# Altium integrated library Micron Memory DDR SDRAM.IntLib: 109 symbols (part 19 of 22)
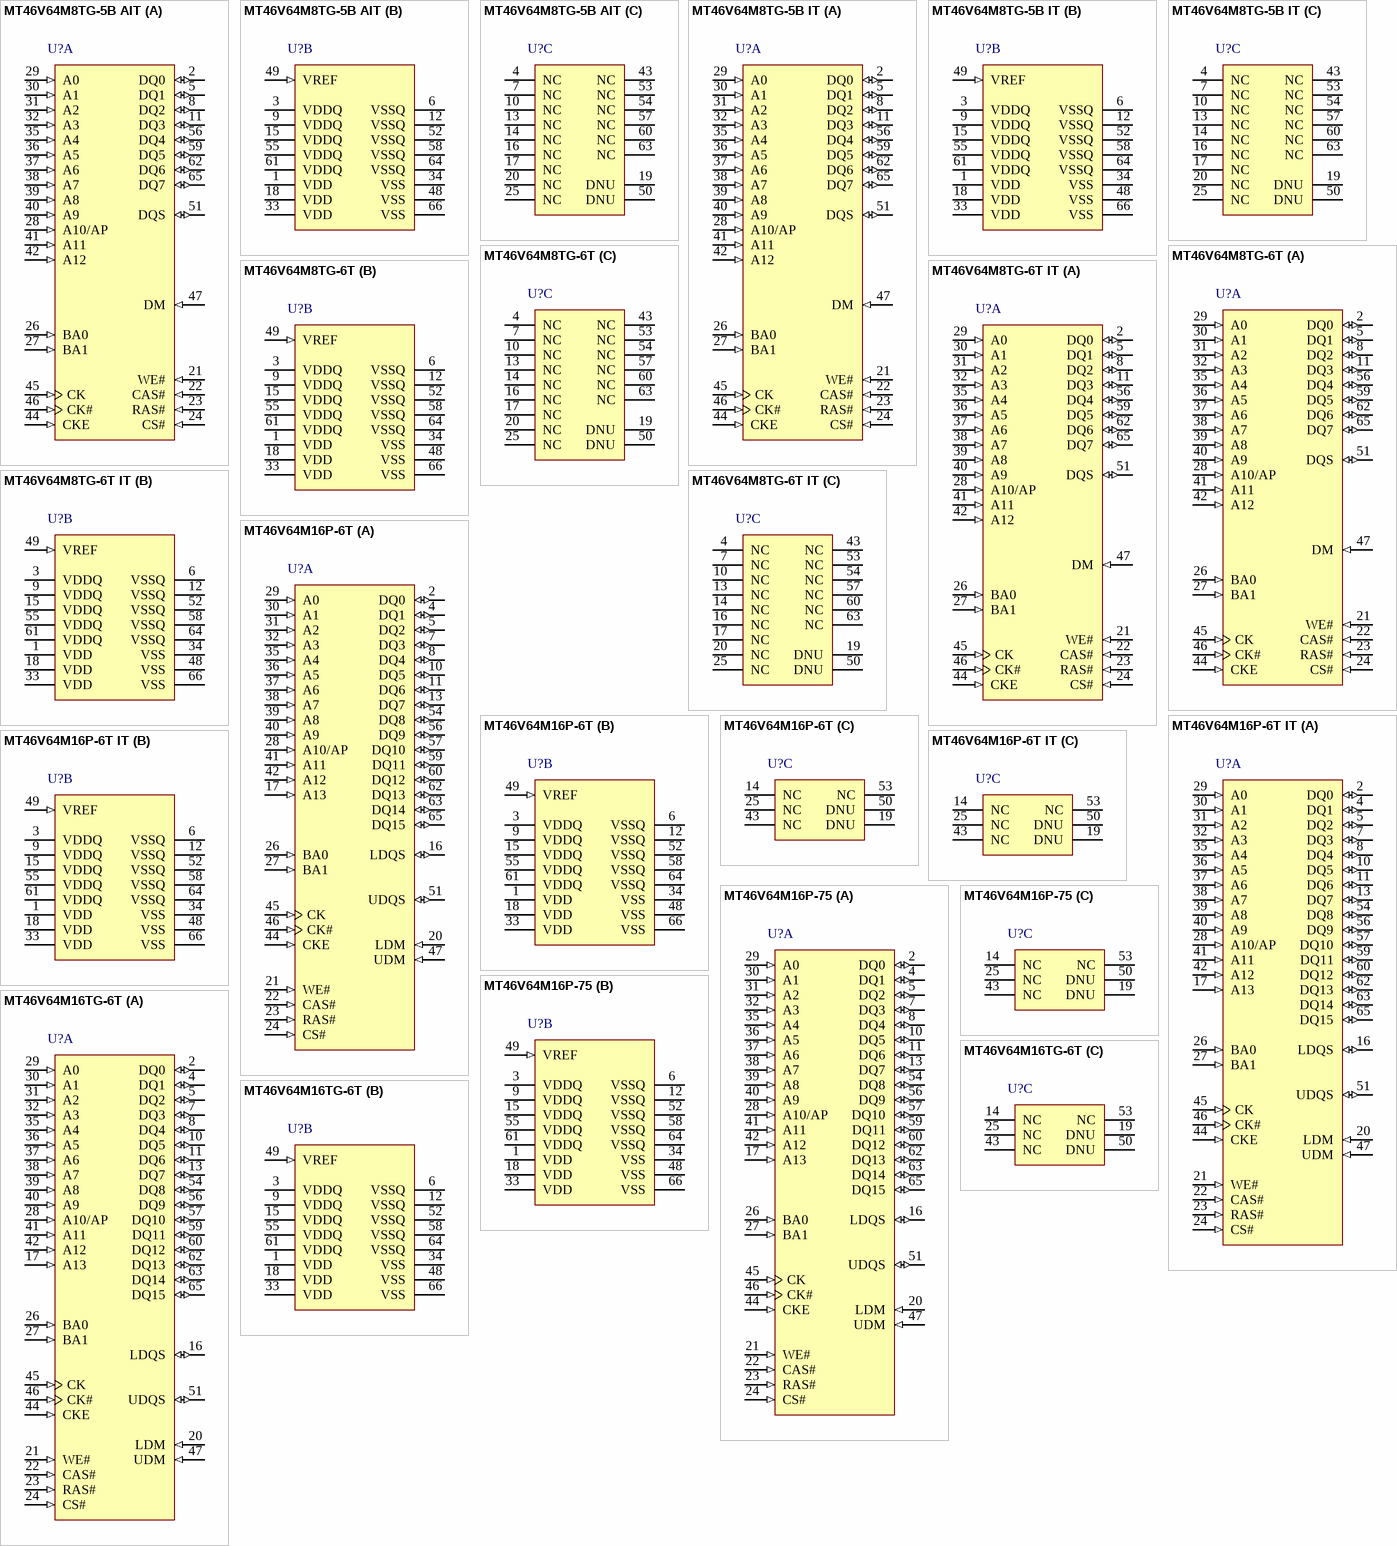
[diagram p31: symbols MT46V64M8TG-5B AIT to MT46V64M16TG-6T]

## MT46V64M16TG-6T
designator U?
1Gb 167MHz DDR SDRAM, 64Mb x 16, 6ns, 2.5V, 0 to 70 degC, 66-Pin TSOP; Manufacturer: Micron; PartNumber: MT46V64M16TG-6T; Op. Temp.: 0C to +70C; DatasheetVersion: Rev.J; PackageReference: MICT-TG-66; PackageDescription: 66-Pin Thin Small Outline Package, 10.16 x 22.22 mm, Pitch 0.65 mm; Clock Rate: 167 MHz; Cycle Time: 6ns; Density: 1Gb; Depth: 64Mb; Package: TSOP; Part Status: Production; Pin Count: 66-pin; RoHS: 5/6; Voltage: 2.5V; Width: x16; Mounting Technology: Surface Mount; ComponentLink1Description: Manufacturer URL; ComponentLink1URL: http://www.micron.com/; ComponentLink2Description: Datasheet; ComponentLink2URL: http://www.micron.com/~/media/Documents/Products/Data Sheet/DRAM/1Gb_DDR.pdf; ComponentLink3Description: Package Specification; ComponentLink3URL: http://www.micron.com/~/media/Documents/Products/Data%20Sheet/DRAM/256Mb_DDR.pdf
footprint MICT-TG-66_N (SOP, 66-Leads, Body 22.22x10.16mm, Pitch 0.65mm, IPC Medium Density)
part A pins: 2 DQ0 (io) "Data input/output: Data bus for x16.", 4 DQ1 (io) "Data input/output: Data bus for x16.", 5 DQ2 (io) "Data input/output: Data bus for x16.", 7 DQ3 (io) "Data input/output: Data bus for x16.", 8 DQ4 (io) "Data input/output: Data bus for x16.", 10 DQ5 (io) "Data input/output: Data bus for x16.", 11 DQ6 (io) "Data input/output: Data bus for x16.", 13 DQ7 (io) "Data input/output: Data bus for x16.", 16 LDQS (io) "Data strobe: Output with read data, input with write data. DQS is edgealigned with read data, center-aligned with write data. It is used to capture data. For the x16, LDQS is DQS for DQ[7:0] and UDQS is DQS for DQ[15:8]. Pin (See Datasheet)", 17 A13 (in) "Address inputs: Provide the row address for ACTIVE commands, and the column address and auto precharge bit (A10) for READ/WRITE commands, to select one location out of the memory array in the respective bank. A10 sampled (See Datasheet)", 20 LDM (in) "Input data mask: DM is an input mask signal for write data. Input data is masked when DM is sampled HIGH along with that input data during a write access. DM is sampled on both edges of DQS. Although DM pins are input-only, (See Datasheet)", 21 WE# (in) "Command inputs: RAS#, CAS#, and WE# (along with CS#) define the command being entered.", 22 CAS# (in) "Command inputs: RAS#, CAS#, and WE# (along with CS#) define the command being entered.", 23 RAS# (in) "Command inputs: RAS#, CAS#, and WE# (along with CS#) define the command being entered.", 24 CS# (in) "Chip select: CS# enables (registered LOW) and disables (registered HIGH) the command decoder. All commands are masked when CS# is registered HIGH. CS# provides for external bank selection on systems with multiple banks. CS# (See Datasheet)", 26 BA0 (in) "Bank address inputs: BA0 and BA1 define the bank to which an ACTIVE, READ, WRITE, or PRECHARGE command is being applied. BA0 and BA1 also define which mode register (mode register or extended mode register) is loaded during (See Datasheet)", 27 BA1 (in) "Bank address inputs: BA0 and BA1 define the bank to which an ACTIVE, READ, WRITE, or PRECHARGE command is being applied. BA0 and BA1 also define which mode register (mode register or extended mode register) is loaded during (See Datasheet)", 28 A10/AP (in) "Address inputs: Provide the row address for ACTIVE commands, and the column address and auto precharge bit (A10) for READ/WRITE commands, to select one location out of the memory array in the respective bank. A10 sampled (See Datasheet)", 29 A0 (in) "Address inputs: Provide the row address for ACTIVE commands, and the column address and auto precharge bit (A10) for READ/WRITE commands, to select one location out of the memory array in the respective bank. A10 sampled (See Datasheet)", 30 A1 (in) "Address inputs: Provide the row address for ACTIVE commands, and the column address and auto precharge bit (A10) for READ/WRITE commands, to select one location out of the memory array in the respective bank. A10 sampled (See Datasheet)", 31 A2 (in) "Address inputs: Provide the row address for ACTIVE commands, and the column address and auto precharge bit (A10) for READ/WRITE commands, to select one location out of the memory array in the respective bank. A10 sampled (See Datasheet)", 32 A3 (in) "Address inputs: Provide the row address for ACTIVE commands, and the column address and auto precharge bit (A10) for READ/WRITE commands, to select one location out of the memory array in the respective bank. A10 sampled (See Datasheet)", 35 A4 (in) "Address inputs: Provide the row address for ACTIVE commands, and the column address and auto precharge bit (A10) for READ/WRITE commands, to select one location out of the memory array in the respective bank. A10 sampled (See Datasheet)", 36 A5 (in) "Address inputs: Provide the row address for ACTIVE commands, and the column address and auto precharge bit (A10) for READ/WRITE commands, to select one location out of the memory array in the respective bank. A10 sampled (See Datasheet)", 37 A6 (in) "Address inputs: Provide the row address for ACTIVE commands, and the column address and auto precharge bit (A10) for READ/WRITE commands, to select one location out of the memory array in the respective bank. A10 sampled (See Datasheet)", 38 A7 (in) "Address inputs: Provide the row address for ACTIVE commands, and the column address and auto precharge bit (A10) for READ/WRITE commands, to select one location out of the memory array in the respective bank. A10 sampled (See Datasheet)", 39 A8 (in) "Address inputs: Provide the row address for ACTIVE commands, and the column address and auto precharge bit (A10) for READ/WRITE commands, to select one location out of the memory array in the respective bank. A10 sampled (See Datasheet)", 40 A9 (in) "Address inputs: Provide the row address for ACTIVE commands, and the column address and auto precharge bit (A10) for READ/WRITE commands, to select one location out of the memory array in the respective bank. A10 sampled (See Datasheet)", 41 A11 (in) "Address inputs: Provide the row address for ACTIVE commands, and the column address and auto precharge bit (A10) for READ/WRITE commands, to select one location out of the memory array in the respective bank. A10 sampled (See Datasheet)", 42 A12 (in) "Address inputs: Provide the row address for ACTIVE commands, and the column address and auto precharge bit (A10) for READ/WRITE commands, to select one location out of the memory array in the respective bank. A10 sampled (See Datasheet)", 44 CKE (in) "Clock enable: CKE HIGH activates and CKE LOW deactivates the internal clock, input buffers, and output drivers. Taking CKE LOW provides PRECHARGE power-down and SELF REFRESH operations (all banks idle) or ACTIVE power-down (See Datasheet)", 45 CK (in) "Clock: CK and CK# are differential clock inputs. All address and control input signals are sampled on the crossing of the positive edge of CK and the negative edge of CK#. Output data (DQ and DQS) is referenced to the (See Datasheet)", 46 CK# (in) "Clock: CK and CK# are differential clock inputs. All address and control input signals are sampled on the crossing of the positive edge of CK and the negative edge of CK#. Output data (DQ and DQS) is referenced to the (See Datasheet)", 47 UDM (in) "Input data mask: DM is an input mask signal for write data. Input data is masked when DM is sampled HIGH along with that input data during a write access. DM is sampled on both edges of DQS. Although DM pins are input-only, (See Datasheet)", 51 UDQS (io) "Data strobe: Output with read data, input with write data. DQS is edgealigned with read data, center-aligned with write data. It is used to capture data. For the x16, LDQS is DQS for DQ[7:0] and UDQS is DQS for DQ[15:8]. Pin (See Datasheet)", 54 DQ8 (io) "Data input/output: Data bus for x16.", 56 DQ9 (io) "Data input/output: Data bus for x16.", 57 DQ10 (io) "Data input/output: Data bus for x16.", 59 DQ11 (io) "Data input/output: Data bus for x16.", 60 DQ12 (io) "Data input/output: Data bus for x16.", 62 DQ13 (io) "Data input/output: Data bus for x16.", 63 DQ14 (io) "Data input/output: Data bus for x16.", 65 DQ15 (io) "Data input/output: Data bus for x16."
part B pins: 1 VDD (power) "Power supply.", 3 VDDQ (power) "DQ power supply: Isolated on the die for improved noise immunity.", 6 VSSQ (power) "DQ ground: Isolated on the die for improved noise immunity.", 9 VDDQ (power) "DQ power supply: Isolated on the die for improved noise immunity.", 12 VSSQ (power) "DQ ground: Isolated on the die for improved noise immunity.", 15 VDDQ (power) "DQ power supply: Isolated on the die for improved noise immunity.", 18 VDD (power) "Power supply.", 33 VDD (power) "Power supply.", 34 VSS (power) "Ground.", 48 VSS (power) "Ground.", 49 VREF (in) "SSTL_2 reference voltage.", 52 VSSQ (power) "DQ ground: Isolated on the die for improved noise immunity.", 55 VDDQ (power) "DQ power supply: Isolated on the die for improved noise immunity.", 58 VSSQ (power) "DQ ground: Isolated on the die for improved noise immunity.", 61 VDDQ (power) "DQ power supply: Isolated on the die for improved noise immunity.", 64 VSSQ (power) "DQ ground: Isolated on the die for improved noise immunity.", 66 VSS (power) "Ground."
part C pins: 14 NC "No connect for x16: These pins should be left unconnected.", 19 DNU "Do not use: Must float to minimize noise on VREF.", 25 NC "No connect for x16: These pins should be left unconnected.", 43 NC "No connect for x16: These pins should be left unconnected.", 50 DNU "Do not use: Must float to minimize noise on VREF.", 53 NC "No connect for x16: These pins should be left unconnected."

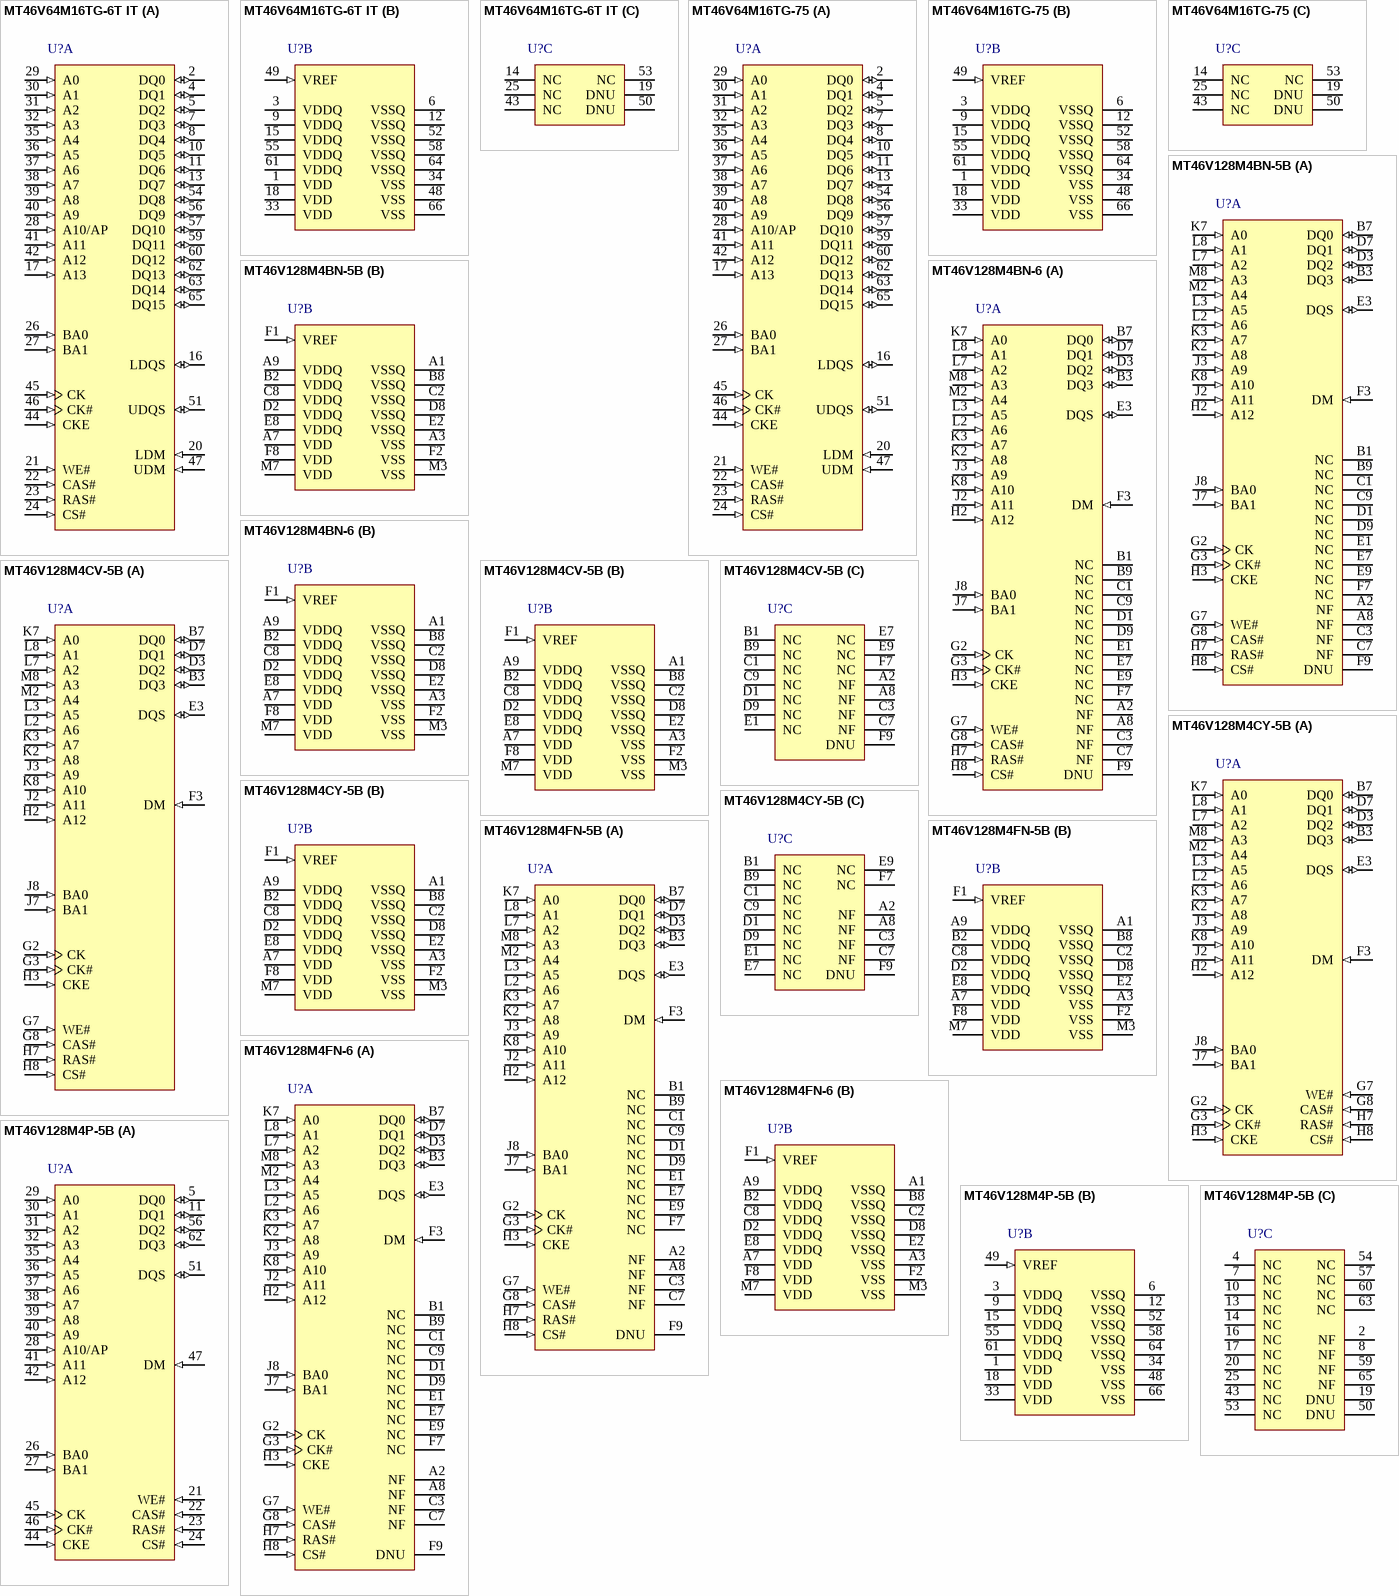
[diagram p11: symbols MT46V64M16TG-6T IT to MT46V128M4P-5B]

## MT46V64M16TG-6T IT
designator U?
1Gb 167MHz DDR SDRAM, 64Mb x 16, 6ns, 2.5V, -40 to 85 degC, 66-Pin TSOP; Manufacturer: Micron; PartNumber: MT46V64M16TG-6T IT; Op. Temp.: -40C to +85C; DatasheetVersion: Rev.J; PackageReference: MICT-TG-66; PackageDescription: 66-Pin Thin Small Outline Package, 10.16 x 22.22 mm, Pitch 0.65 mm; Clock Rate: 167 MHz; Cycle Time: 6ns; Density: 1Gb; Depth: 64Mb; Package: TSOP; Part Status: Production; Pin Count: 66-pin; RoHS: 5/6; Voltage: 2.5V; Width: x16; Mounting Technology: Surface Mount; ComponentLink1Description: Manufacturer URL; ComponentLink1URL: http://www.micron.com/; ComponentLink2Description: Datasheet; ComponentLink2URL: http://www.micron.com/~/media/Documents/Products/Data Sheet/DRAM/1Gb_DDR.pdf; ComponentLink3Description: Package Specification; ComponentLink3URL: http://www.micron.com/~/media/Documents/Products/Data%20Sheet/DRAM/256Mb_DDR.pdf
footprint MICT-TG-66_N (SOP, 66-Leads, Body 22.22x10.16mm, Pitch 0.65mm, IPC Medium Density)
part A pins: 2 DQ0 (io) "Data input/output: Data bus for x16.", 4 DQ1 (io) "Data input/output: Data bus for x16.", 5 DQ2 (io) "Data input/output: Data bus for x16.", 7 DQ3 (io) "Data input/output: Data bus for x16.", 8 DQ4 (io) "Data input/output: Data bus for x16.", 10 DQ5 (io) "Data input/output: Data bus for x16.", 11 DQ6 (io) "Data input/output: Data bus for x16.", 13 DQ7 (io) "Data input/output: Data bus for x16.", 16 LDQS (io) "Data strobe: Output with read data, input with write data. DQS is edgealigned with read data, center-aligned with write data. It is used to capture data. For the x16, LDQS is DQS for DQ[7:0] and UDQS is DQS for DQ[15:8]. Pin (See Datasheet)", 17 A13 (in) "Address inputs: Provide the row address for ACTIVE commands, and the column address and auto precharge bit (A10) for READ/WRITE commands, to select one location out of the memory array in the respective bank. A10 sampled (See Datasheet)", 20 LDM (in) "Input data mask: DM is an input mask signal for write data. Input data is masked when DM is sampled HIGH along with that input data during a write access. DM is sampled on both edges of DQS. Although DM pins are input-only, (See Datasheet)", 21 WE# (in) "Command inputs: RAS#, CAS#, and WE# (along with CS#) define the command being entered.", 22 CAS# (in) "Command inputs: RAS#, CAS#, and WE# (along with CS#) define the command being entered.", 23 RAS# (in) "Command inputs: RAS#, CAS#, and WE# (along with CS#) define the command being entered.", 24 CS# (in) "Chip select: CS# enables (registered LOW) and disables (registered HIGH) the command decoder. All commands are masked when CS# is registered HIGH. CS# provides for external bank selection on systems with multiple banks. CS# (See Datasheet)", 26 BA0 (in) "Bank address inputs: BA0 and BA1 define the bank to which an ACTIVE, READ, WRITE, or PRECHARGE command is being applied. BA0 and BA1 also define which mode register (mode register or extended mode register) is loaded during (See Datasheet)", 27 BA1 (in) "Bank address inputs: BA0 and BA1 define the bank to which an ACTIVE, READ, WRITE, or PRECHARGE command is being applied. BA0 and BA1 also define which mode register (mode register or extended mode register) is loaded during (See Datasheet)", 28 A10/AP (in) "Address inputs: Provide the row address for ACTIVE commands, and the column address and auto precharge bit (A10) for READ/WRITE commands, to select one location out of the memory array in the respective bank. A10 sampled (See Datasheet)", 29 A0 (in) "Address inputs: Provide the row address for ACTIVE commands, and the column address and auto precharge bit (A10) for READ/WRITE commands, to select one location out of the memory array in the respective bank. A10 sampled (See Datasheet)", 30 A1 (in) "Address inputs: Provide the row address for ACTIVE commands, and the column address and auto precharge bit (A10) for READ/WRITE commands, to select one location out of the memory array in the respective bank. A10 sampled (See Datasheet)", 31 A2 (in) "Address inputs: Provide the row address for ACTIVE commands, and the column address and auto precharge bit (A10) for READ/WRITE commands, to select one location out of the memory array in the respective bank. A10 sampled (See Datasheet)", 32 A3 (in) "Address inputs: Provide the row address for ACTIVE commands, and the column address and auto precharge bit (A10) for READ/WRITE commands, to select one location out of the memory array in the respective bank. A10 sampled (See Datasheet)", 35 A4 (in) "Address inputs: Provide the row address for ACTIVE commands, and the column address and auto precharge bit (A10) for READ/WRITE commands, to select one location out of the memory array in the respective bank. A10 sampled (See Datasheet)", 36 A5 (in) "Address inputs: Provide the row address for ACTIVE commands, and the column address and auto precharge bit (A10) for READ/WRITE commands, to select one location out of the memory array in the respective bank. A10 sampled (See Datasheet)", 37 A6 (in) "Address inputs: Provide the row address for ACTIVE commands, and the column address and auto precharge bit (A10) for READ/WRITE commands, to select one location out of the memory array in the respective bank. A10 sampled (See Datasheet)", 38 A7 (in) "Address inputs: Provide the row address for ACTIVE commands, and the column address and auto precharge bit (A10) for READ/WRITE commands, to select one location out of the memory array in the respective bank. A10 sampled (See Datasheet)", 39 A8 (in) "Address inputs: Provide the row address for ACTIVE commands, and the column address and auto precharge bit (A10) for READ/WRITE commands, to select one location out of the memory array in the respective bank. A10 sampled (See Datasheet)", 40 A9 (in) "Address inputs: Provide the row address for ACTIVE commands, and the column address and auto precharge bit (A10) for READ/WRITE commands, to select one location out of the memory array in the respective bank. A10 sampled (See Datasheet)", 41 A11 (in) "Address inputs: Provide the row address for ACTIVE commands, and the column address and auto precharge bit (A10) for READ/WRITE commands, to select one location out of the memory array in the respective bank. A10 sampled (See Datasheet)", 42 A12 (in) "Address inputs: Provide the row address for ACTIVE commands, and the column address and auto precharge bit (A10) for READ/WRITE commands, to select one location out of the memory array in the respective bank. A10 sampled (See Datasheet)", 44 CKE (in) "Clock enable: CKE HIGH activates and CKE LOW deactivates the internal clock, input buffers, and output drivers. Taking CKE LOW provides PRECHARGE power-down and SELF REFRESH operations (all banks idle) or ACTIVE power-down (See Datasheet)", 45 CK (in) "Clock: CK and CK# are differential clock inputs. All address and control input signals are sampled on the crossing of the positive edge of CK and the negative edge of CK#. Output data (DQ and DQS) is referenced to the (See Datasheet)", 46 CK# (in) "Clock: CK and CK# are differential clock inputs. All address and control input signals are sampled on the crossing of the positive edge of CK and the negative edge of CK#. Output data (DQ and DQS) is referenced to the (See Datasheet)", 47 UDM (in) "Input data mask: DM is an input mask signal for write data. Input data is masked when DM is sampled HIGH along with that input data during a write access. DM is sampled on both edges of DQS. Although DM pins are input-only, (See Datasheet)", 51 UDQS (io) "Data strobe: Output with read data, input with write data. DQS is edgealigned with read data, center-aligned with write data. It is used to capture data. For the x16, LDQS is DQS for DQ[7:0] and UDQS is DQS for DQ[15:8]. Pin (See Datasheet)", 54 DQ8 (io) "Data input/output: Data bus for x16.", 56 DQ9 (io) "Data input/output: Data bus for x16.", 57 DQ10 (io) "Data input/output: Data bus for x16.", 59 DQ11 (io) "Data input/output: Data bus for x16.", 60 DQ12 (io) "Data input/output: Data bus for x16.", 62 DQ13 (io) "Data input/output: Data bus for x16.", 63 DQ14 (io) "Data input/output: Data bus for x16.", 65 DQ15 (io) "Data input/output: Data bus for x16."
part B pins: 1 VDD (power) "Power supply.", 3 VDDQ (power) "DQ power supply: Isolated on the die for improved noise immunity.", 6 VSSQ (power) "DQ ground: Isolated on the die for improved noise immunity.", 9 VDDQ (power) "DQ power supply: Isolated on the die for improved noise immunity.", 12 VSSQ (power) "DQ ground: Isolated on the die for improved noise immunity.", 15 VDDQ (power) "DQ power supply: Isolated on the die for improved noise immunity.", 18 VDD (power) "Power supply.", 33 VDD (power) "Power supply.", 34 VSS (power) "Ground.", 48 VSS (power) "Ground.", 49 VREF (in) "SSTL_2 reference voltage.", 52 VSSQ (power) "DQ ground: Isolated on the die for improved noise immunity.", 55 VDDQ (power) "DQ power supply: Isolated on the die for improved noise immunity.", 58 VSSQ (power) "DQ ground: Isolated on the die for improved noise immunity.", 61 VDDQ (power) "DQ power supply: Isolated on the die for improved noise immunity.", 64 VSSQ (power) "DQ ground: Isolated on the die for improved noise immunity.", 66 VSS (power) "Ground."
part C pins: 14 NC "No connect for x16: These pins should be left unconnected.", 19 DNU "Do not use: Must float to minimize noise on VREF.", 25 NC "No connect for x16: These pins should be left unconnected.", 43 NC "No connect for x16: These pins should be left unconnected.", 50 DNU "Do not use: Must float to minimize noise on VREF.", 53 NC "No connect for x16: These pins should be left unconnected."

## MT46V64M16TG-75
designator U?
1Gb 133MHz DDR SDRAM, 64Mb x 16, 7.5ns, 2.5V, 0 to 70 degC, 66-Pin TSOP; Manufacturer: Micron; PartNumber: MT46V64M16TG-75; Op. Temp.: 0C to +70C; DatasheetVersion: Rev.J; PackageReference: MICT-TG-66; PackageDescription: 66-Pin Thin Small Outline Package, 10.16 x 22.22 mm, Pitch 0.65 mm; Clock Rate: 133 MHz; Cycle Time: 7.5ns; Density: 1Gb; Depth: 64Mb; Package: TSOP; Part Status: Production; Pin Count: 66-pin; RoHS: 5/6; Voltage: 2.5V; Width: x16; Mounting Technology: Surface Mount; ComponentLink1Description: Manufacturer URL; ComponentLink1URL: http://www.micron.com/; ComponentLink2Description: Datasheet; ComponentLink2URL: http://www.micron.com/~/media/Documents/Products/Data Sheet/DRAM/1Gb_DDR.pdf; ComponentLink3Description: Package Specification; ComponentLink3URL: http://www.micron.com/~/media/Documents/Products/Data%20Sheet/DRAM/256Mb_DDR.pdf
footprint MICT-TG-66_N (SOP, 66-Leads, Body 22.22x10.16mm, Pitch 0.65mm, IPC Medium Density)
part A pins: 2 DQ0 (io) "Data input/output: Data bus for x16.", 4 DQ1 (io) "Data input/output: Data bus for x16.", 5 DQ2 (io) "Data input/output: Data bus for x16.", 7 DQ3 (io) "Data input/output: Data bus for x16.", 8 DQ4 (io) "Data input/output: Data bus for x16.", 10 DQ5 (io) "Data input/output: Data bus for x16.", 11 DQ6 (io) "Data input/output: Data bus for x16.", 13 DQ7 (io) "Data input/output: Data bus for x16.", 16 LDQS (io) "Data strobe: Output with read data, input with write data. DQS is edgealigned with read data, center-aligned with write data. It is used to capture data. For the x16, LDQS is DQS for DQ[7:0] and UDQS is DQS for DQ[15:8]. Pin (See Datasheet)", 17 A13 (in) "Address inputs: Provide the row address for ACTIVE commands, and the column address and auto precharge bit (A10) for READ/WRITE commands, to select one location out of the memory array in the respective bank. A10 sampled (See Datasheet)", 20 LDM (in) "Input data mask: DM is an input mask signal for write data. Input data is masked when DM is sampled HIGH along with that input data during a write access. DM is sampled on both edges of DQS. Although DM pins are input-only, (See Datasheet)", 21 WE# (in) "Command inputs: RAS#, CAS#, and WE# (along with CS#) define the command being entered.", 22 CAS# (in) "Command inputs: RAS#, CAS#, and WE# (along with CS#) define the command being entered.", 23 RAS# (in) "Command inputs: RAS#, CAS#, and WE# (along with CS#) define the command being entered.", 24 CS# (in) "Chip select: CS# enables (registered LOW) and disables (registered HIGH) the command decoder. All commands are masked when CS# is registered HIGH. CS# provides for external bank selection on systems with multiple banks. CS# (See Datasheet)", 26 BA0 (in) "Bank address inputs: BA0 and BA1 define the bank to which an ACTIVE, READ, WRITE, or PRECHARGE command is being applied. BA0 and BA1 also define which mode register (mode register or extended mode register) is loaded during (See Datasheet)", 27 BA1 (in) "Bank address inputs: BA0 and BA1 define the bank to which an ACTIVE, READ, WRITE, or PRECHARGE command is being applied. BA0 and BA1 also define which mode register (mode register or extended mode register) is loaded during (See Datasheet)", 28 A10/AP (in) "Address inputs: Provide the row address for ACTIVE commands, and the column address and auto precharge bit (A10) for READ/WRITE commands, to select one location out of the memory array in the respective bank. A10 sampled (See Datasheet)", 29 A0 (in) "Address inputs: Provide the row address for ACTIVE commands, and the column address and auto precharge bit (A10) for READ/WRITE commands, to select one location out of the memory array in the respective bank. A10 sampled (See Datasheet)", 30 A1 (in) "Address inputs: Provide the row address for ACTIVE commands, and the column address and auto precharge bit (A10) for READ/WRITE commands, to select one location out of the memory array in the respective bank. A10 sampled (See Datasheet)", 31 A2 (in) "Address inputs: Provide the row address for ACTIVE commands, and the column address and auto precharge bit (A10) for READ/WRITE commands, to select one location out of the memory array in the respective bank. A10 sampled (See Datasheet)", 32 A3 (in) "Address inputs: Provide the row address for ACTIVE commands, and the column address and auto precharge bit (A10) for READ/WRITE commands, to select one location out of the memory array in the respective bank. A10 sampled (See Datasheet)", 35 A4 (in) "Address inputs: Provide the row address for ACTIVE commands, and the column address and auto precharge bit (A10) for READ/WRITE commands, to select one location out of the memory array in the respective bank. A10 sampled (See Datasheet)", 36 A5 (in) "Address inputs: Provide the row address for ACTIVE commands, and the column address and auto precharge bit (A10) for READ/WRITE commands, to select one location out of the memory array in the respective bank. A10 sampled (See Datasheet)", 37 A6 (in) "Address inputs: Provide the row address for ACTIVE commands, and the column address and auto precharge bit (A10) for READ/WRITE commands, to select one location out of the memory array in the respective bank. A10 sampled (See Datasheet)", 38 A7 (in) "Address inputs: Provide the row address for ACTIVE commands, and the column address and auto precharge bit (A10) for READ/WRITE commands, to select one location out of the memory array in the respective bank. A10 sampled (See Datasheet)", 39 A8 (in) "Address inputs: Provide the row address for ACTIVE commands, and the column address and auto precharge bit (A10) for READ/WRITE commands, to select one location out of the memory array in the respective bank. A10 sampled (See Datasheet)", 40 A9 (in) "Address inputs: Provide the row address for ACTIVE commands, and the column address and auto precharge bit (A10) for READ/WRITE commands, to select one location out of the memory array in the respective bank. A10 sampled (See Datasheet)", 41 A11 (in) "Address inputs: Provide the row address for ACTIVE commands, and the column address and auto precharge bit (A10) for READ/WRITE commands, to select one location out of the memory array in the respective bank. A10 sampled (See Datasheet)", 42 A12 (in) "Address inputs: Provide the row address for ACTIVE commands, and the column address and auto precharge bit (A10) for READ/WRITE commands, to select one location out of the memory array in the respective bank. A10 sampled (See Datasheet)", 44 CKE (in) "Clock enable: CKE HIGH activates and CKE LOW deactivates the internal clock, input buffers, and output drivers. Taking CKE LOW provides PRECHARGE power-down and SELF REFRESH operations (all banks idle) or ACTIVE power-down (See Datasheet)", 45 CK (in) "Clock: CK and CK# are differential clock inputs. All address and control input signals are sampled on the crossing of the positive edge of CK and the negative edge of CK#. Output data (DQ and DQS) is referenced to the (See Datasheet)", 46 CK# (in) "Clock: CK and CK# are differential clock inputs. All address and control input signals are sampled on the crossing of the positive edge of CK and the negative edge of CK#. Output data (DQ and DQS) is referenced to the (See Datasheet)", 47 UDM (in) "Input data mask: DM is an input mask signal for write data. Input data is masked when DM is sampled HIGH along with that input data during a write access. DM is sampled on both edges of DQS. Although DM pins are input-only, (See Datasheet)", 51 UDQS (io) "Data strobe: Output with read data, input with write data. DQS is edgealigned with read data, center-aligned with write data. It is used to capture data. For the x16, LDQS is DQS for DQ[7:0] and UDQS is DQS for DQ[15:8]. Pin (See Datasheet)", 54 DQ8 (io) "Data input/output: Data bus for x16.", 56 DQ9 (io) "Data input/output: Data bus for x16.", 57 DQ10 (io) "Data input/output: Data bus for x16.", 59 DQ11 (io) "Data input/output: Data bus for x16.", 60 DQ12 (io) "Data input/output: Data bus for x16.", 62 DQ13 (io) "Data input/output: Data bus for x16.", 63 DQ14 (io) "Data input/output: Data bus for x16.", 65 DQ15 (io) "Data input/output: Data bus for x16."
part B pins: 1 VDD (power) "Power supply.", 3 VDDQ (power) "DQ power supply: Isolated on the die for improved noise immunity.", 6 VSSQ (power) "DQ ground: Isolated on the die for improved noise immunity.", 9 VDDQ (power) "DQ power supply: Isolated on the die for improved noise immunity.", 12 VSSQ (power) "DQ ground: Isolated on the die for improved noise immunity.", 15 VDDQ (power) "DQ power supply: Isolated on the die for improved noise immunity.", 18 VDD (power) "Power supply.", 33 VDD (power) "Power supply.", 34 VSS (power) "Ground.", 48 VSS (power) "Ground.", 49 VREF (in) "SSTL_2 reference voltage.", 52 VSSQ (power) "DQ ground: Isolated on the die for improved noise immunity.", 55 VDDQ (power) "DQ power supply: Isolated on the die for improved noise immunity.", 58 VSSQ (power) "DQ ground: Isolated on the die for improved noise immunity.", 61 VDDQ (power) "DQ power supply: Isolated on the die for improved noise immunity.", 64 VSSQ (power) "DQ ground: Isolated on the die for improved noise immunity.", 66 VSS (power) "Ground."
part C pins: 14 NC "No connect for x16: These pins should be left unconnected.", 19 DNU "Do not use: Must float to minimize noise on VREF.", 25 NC "No connect for x16: These pins should be left unconnected.", 43 NC "No connect for x16: These pins should be left unconnected.", 50 DNU "Do not use: Must float to minimize noise on VREF.", 53 NC "No connect for x16: These pins should be left unconnected."

## MT46V128M4BN-5B
designator U?
512Mb 200MHz DDR SDRAM, 128Mb x 4, 5ns, 2.6V, 0 to 70 degC, 60-Ball FBGA, Pb-Free; Manufacturer: Micron; PartNumber: MT46V128M4BN-5B; Op. Temp.: 0C to +70C; DatasheetVersion: Rev.Q; PackageVersion: Rev.F; PackageReference: MICT-BN-60; PackageDescription: 60-Ball Fine-Pitch Ball Grid Array, 12.5 x 10 mm, Pitch 1 mm; Clock Rate: 200 MHz; Cycle Time: 5ns; Density: 512Mb; Depth: 128Mb; Package: FBGA; Part Status: EOL Pending; Pin Count: 60-ball; RoHS: Yes; Voltage: 2.6V; Width: x4; Mounting Technology: Surface Mount; ComponentLink1Description: Manufacturer URL; ComponentLink1URL: http://www.micron.com/; ComponentLink2Description: Datasheet; ComponentLink2URL: http://www.micron.com/~/media/Documents/Products/Data Sheet/DRAM/512Mb_DDR.pdf; ComponentLink3Description: Package Specification; ComponentLink3URL: http://www.micron.com/~/media/Documents/Products/Data Sheet/DRAM/512Mb_DDR.pdf
footprint MICT-BN-60 (BGA, 60-Balls, Body 12.5x10mm, Pitch(D) 1mm, Pitch(E) 0.8mm)
part A pins: A2 NF "No function for x4: These pins should be left unconnected.", A8 NF "No function for x4: These pins should be left unconnected.", B1 NC "No connect for x4: These pins should be left unconnected.", B3 DQ3 (io) "Data input/output: Data bus for x4.", B7 DQ0 (io) "Data input/output: Data bus for x4.", B9 NC "No connect for x4: These pins should be left unconnected.", C1 NC "No connect for x4: These pins should be left unconnected.", C3 NF "No function for x4: These pins should be left unconnected.", C7 NF "No function for x4: These pins should be left unconnected.", C9 NC "No connect for x4: These pins should be left unconnected.", D1 NC "No connect for x4: These pins should be left unconnected.", D3 DQ2 (io) "Data input/output: Data bus for x4.", D7 DQ1 (io) "Data input/output: Data bus for x4.", D9 NC "No connect for x4: These pins should be left unconnected.", E1 NC "No connect for x4: These pins should be left unconnected.", E3 DQS (io) "Data strobe: Output with read data, input with write data. DQS is edgealigned with read data, centered in write data. It is used to capture data.For the x16, LDQS is DQS for DQ[7:0] and UDQS is DQS for DQ[15:8]. Pin16 (E7) (See Datasheet)", E7 NC "No connect for x4: These pins should be left unconnected.", E9 NC "No connect for x4: These pins should be left unconnected.", F3 DM (in) "Input data mask: DM is an input mask signal for write data. Input datais masked when DM is sampled HIGH along with that input data during awrite access. DM is sampled on both edges of DQS. Although DM pins areinput-only, the (See Datasheet)", F7 NC "No connect for x4: These pins should be left unconnected.", F9 DNU "Do not use: Must float to minimize noise on VREF.", G2 CK (in) "Clock: CK and CK# are differential clock inputs. All address and control input signals are sampled on the crossing of the positive edge of CK andnegative edge of CK#. Output data (DQ and DQS) is referenced to thecrossings of (See Datasheet)", G3 CK# (in) "Clock: CK and CK# are differential clock inputs. All address and contro linput signals are sampled on the crossing of the positive edge of CK andnegative edge of CK#. Output data (DQ and DQS) is referenced to thecrossings of (See Datasheet)", G7 WE# (in) "Command inputs: RAS#, CAS#, and WE# (along with CS#) define the command being entered.", G8 CAS# (in) "Command inputs: RAS#, CAS#, and WE# (along with CS#) define the command being entered.", H2 A12 (in) "Address inputs: Provide the row address for ACTIVE commands, and the column address and auto precharge bit (A10) for READ/WRITEcommands, to select one location out of the memory array in therespective bank. A10 sampled (See Datasheet)", H3 CKE (in) "Clock enable: CKE HIGH activates and CKE LOW deactivates the internal clock, input buffers, and output drivers. Taking CKE LOW providesPRECHARGE POWER-DOWN and SELF REFRESH operations (all banksidle), or ACTIVE POWER-DOWN (See Datasheet)", H7 RAS# (in) "Command inputs: RAS#, CAS#, and WE# (along with CS#) define the command being entered.", H8 CS# (in) "Chip select: CS# enables (registered LOW) and disables (registeredHIGH) the command decoder. All commands are masked when CS# is registered HIGH. CS# provides for external bank selection on systems with multiple banks. CS# (See Datasheet)", J2 A11 (in) "Address inputs: Provide the row address for ACTIVE commands, and the column address and auto precharge bit (A10) for READ/WRITEcommands, to select one location out of the memory array in there spective bank. A10 sampled (See Datasheet)", J3 A9 (in) "Address inputs: Provide the row address for ACTIVE commands, and the column address and auto precharge bit (A10) for READ/WRITEcommands, to select one location out of the memory array in there spective bank. A10 sampled (See Datasheet)", J7 BA1 (in) "Bank address inputs: BA0 and BA1 define to which bank an ACTIVE,READ, WRITE, or PRECHARGE command is being applied. BA0 and BA1also define which mode register (mode register or extended moderegister) is loaded during the (See Datasheet)", J8 BA0 (in) "Bank address inputs: BA0 and BA1 define to which bank an ACTIVE,READ, WRITE, or PRECHARGE command is being applied. BA0 and BA1also define which mode register (mode register or extended moderegister) is loaded during the (See Datasheet)", K2 A8 (in) "Address inputs: Provide the row address for ACTIVE commands, and the column address and auto precharge bit (A10) for READ/WRITEcommands, to select one location out of the memory array in theres pective bank. A10 sampled (See Datasheet)", K3 A7 (in) "Address inputs: Provide the row address for ACTIVE commands, and the column address and auto precharge bit (A10) for READ/WRITEcommands, to select one location out of the memory array in therespective bank. A10 sampled (See Datasheet)", K7 A0 (in) "Address inputs: Provide the row address for ACTIVE commands, and the column address and auto precharge bit (A10) for READ/WRITEcommands, to select one location out of the memory array in therespective bank. A10 sampled (See Datasheet)", K8 A10 (in) "Address inputs: Provide the row address for ACTIVE commands, and the column address and auto precharge bit (A10) for READ/WRITEcommands, to select one location out of the memory array in therespective bank. A10 sampled (See Datasheet)", L2 A6 (in) "Address inputs: Provide the row address for ACTIVE commands, and the column address and auto precharge bit (A10) for READ/WRITEcommands, to select one location out of the memory array in therespective bank. A10 sampled (See Datasheet)", L3 A5 (in) "Address inputs: Provide the row address for ACTIVE commands, and the column address and auto precharge bit (A10) for READ/WRITEcommands, to select one location out of the memory array in therespective bank. A10 sampled (See Datasheet)", L7 A2 (in) "Address inputs: Provide the row address for ACTIVE commands, and the column address and auto precharge bit (A10) for READ/WRITEcommands, to select one location out of the memory array in therespective bank. A10 sampled (See Datasheet)", L8 A1 (in) "Address inputs: Provide the row address for ACTIVE commands, and the column address and auto precharge bit (A10) for READ/WRITEcommands, to select one location out of the memory array in therespective bank. A10 sampled (See Datasheet)", M2 A4 (in) "Address inputs: Provide the row address for ACTIVE commands, and the column address and auto precharge bit (A10) for READ/WRITEcommands, to select one location out of the memory array in therespective bank. A10 sampled (See Datasheet)", M8 A3 (in) "Address inputs: Provide the row address for ACTIVE commands, and the column address and auto precharge bit (A10) for READ/WRITEcommands, to select one location out of the memory array in therespective bank. A10 sampled (See Datasheet)"
part B pins: A1 VSSQ (power) "DQ ground: Isolated on the die for improved noise immunity.", A3 VSS (power) "Ground.", A7 VDD (power) "Power supply: 2.5V +/-0.2V. (2.6V +/-0.1V for DDR400).", A9 VDDQ (power) "DQ power supply: 2.5V +/-0.2V (2.6V +/-0.1V for DDR400). Isolated on the die for improved noise immunity.", B2 VDDQ (power) "DQ power supply: 2.5V +/-0.2V (2.6V +/-0.1V for DDR400). Isolated on the die for improved noise immunity.", B8 VSSQ (power) "DQ ground: Isolated on the die for improved noise immunity.", C2 VSSQ (power) "DQ ground: Isolated on the die for improved noise immunity.", C8 VDDQ (power) "DQ power supply: 2.5V +/-0.2V (2.6V +/-0.1V for DDR400). Isolated on the die for improved noise immunity.", D2 VDDQ (power) "DQ power supply: 2.5V +/-0.2V (2.6V +/-0.1V for DDR400). Isolated on the die for improved noise immunity.", D8 VSSQ (power) "DQ ground: Isolated on the die for improved noise immunity.", E2 VSSQ (power) "DQ ground: Isolated on the die for improved noise immunity.", E8 VDDQ (power) "DQ power supply: 2.5V +/-0.2V (2.6V +/-0.1V for DDR400). Isolated on the die for improved noise immunity.", F1 VREF (in) "SSTL_2 reference voltage.", F2 VSS (power) "Ground.", F8 VDD (power) "Power supply: 2.5V +/-0.2V. (2.6V +/-0.1V for DDR400).", M3 VSS (power) "Ground.", M7 VDD (power) "Power supply: 2.5V +/-0.2V. (2.6V +/-0.1V for DDR400)."

## MT46V128M4BN-6
designator U?
512Mb 167MHz DDR SDRAM, 128Mb x 4, 6ns, 2.5V, 0 to 70 degC, 60-Ball FBGA, Pb-Free; Manufacturer: Micron; PartNumber: MT46V128M4BN-6; Op. Temp.: 0C to +70C; DatasheetVersion: Rev.Q; PackageVersion: Rev.F; PackageReference: MICT-BN-60; PackageDescription: 60-Ball Fine-Pitch Ball Grid Array, 12.5 x 10 mm, Pitch 1 mm; Clock Rate: 167 MHz; Cycle Time: 6ns; Density: 512Mb; Depth: 128Mb; Package: FBGA; Part Status: EOL Pending; Pin Count: 60-ball; RoHS: Yes; Voltage: 2.5V; Width: x4; Mounting Technology: Surface Mount; ComponentLink1Description: Manufacturer URL; ComponentLink1URL: http://www.micron.com/; ComponentLink2Description: Datasheet; ComponentLink2URL: http://www.micron.com/~/media/Documents/Products/Data Sheet/DRAM/512Mb_DDR.pdf; ComponentLink3Description: Package Specification; ComponentLink3URL: http://www.micron.com/~/media/Documents/Products/Data Sheet/DRAM/512Mb_DDR.pdf
footprint MICT-BN-60 (BGA, 60-Balls, Body 12.5x10mm, Pitch(D) 1mm, Pitch(E) 0.8mm)
part A pins: A2 NF "No function for x4: These pins should be left unconnected.", A8 NF "No function for x4: These pins should be left unconnected.", B1 NC "No connect for x4: These pins should be left unconnected.", B3 DQ3 (io) "Data input/output: Data bus for x4.", B7 DQ0 (io) "Data input/output: Data bus for x4.", B9 NC "No connect for x4: These pins should be left unconnected.", C1 NC "No connect for x4: These pins should be left unconnected.", C3 NF "No function for x4: These pins should be left unconnected.", C7 NF "No function for x4: These pins should be left unconnected.", C9 NC "No connect for x4: These pins should be left unconnected.", D1 NC "No connect for x4: These pins should be left unconnected.", D3 DQ2 (io) "Data input/output: Data bus for x4.", D7 DQ1 (io) "Data input/output: Data bus for x4.", D9 NC "No connect for x4: These pins should be left unconnected.", E1 NC "No connect for x4: These pins should be left unconnected.", E3 DQS (io) "Data strobe: Output with read data, input with write data. DQS is edgealigned with read data, centered in write data. It is used to capture data.For the x16, LDQS is DQS for DQ[7:0] and UDQS is DQS for DQ[15:8]. Pin16 (E7) (See Datasheet)", E7 NC "No connect for x4: These pins should be left unconnected.", E9 NC "No connect for x4: These pins should be left unconnected.", F3 DM (in) "Input data mask: DM is an input mask signal for write data. Input datais masked when DM is sampled HIGH along with that input data during awrite access. DM is sampled on both edges of DQS. Although DM pins areinput-only, the (See Datasheet)", F7 NC "No connect for x4: These pins should be left unconnected.", F9 DNU "Do not use: Must float to minimize noise on VREF.", G2 CK (in) "Clock: CK and CK# are differential clock inputs. All address and control input signals are sampled on the crossing of the positive edge of CK andnegative edge of CK#. Output data (DQ and DQS) is referenced to thecrossings of (See Datasheet)", G3 CK# (in) "Clock: CK and CK# are differential clock inputs. All address and contro linput signals are sampled on the crossing of the positive edge of CK andnegative edge of CK#. Output data (DQ and DQS) is referenced to thecrossings of (See Datasheet)", G7 WE# (in) "Command inputs: RAS#, CAS#, and WE# (along with CS#) define the command being entered.", G8 CAS# (in) "Command inputs: RAS#, CAS#, and WE# (along with CS#) define the command being entered.", H2 A12 (in) "Address inputs: Provide the row address for ACTIVE commands, and the column address and auto precharge bit (A10) for READ/WRITEcommands, to select one location out of the memory array in therespective bank. A10 sampled (See Datasheet)", H3 CKE (in) "Clock enable: CKE HIGH activates and CKE LOW deactivates the internal clock, input buffers, and output drivers. Taking CKE LOW providesPRECHARGE POWER-DOWN and SELF REFRESH operations (all banksidle), or ACTIVE POWER-DOWN (See Datasheet)", H7 RAS# (in) "Command inputs: RAS#, CAS#, and WE# (along with CS#) define the command being entered.", H8 CS# (in) "Chip select: CS# enables (registered LOW) and disables (registeredHIGH) the command decoder. All commands are masked when CS# is registered HIGH. CS# provides for external bank selection on systems with multiple banks. CS# (See Datasheet)", J2 A11 (in) "Address inputs: Provide the row address for ACTIVE commands, and the column address and auto precharge bit (A10) for READ/WRITEcommands, to select one location out of the memory array in there spective bank. A10 sampled (See Datasheet)", J3 A9 (in) "Address inputs: Provide the row address for ACTIVE commands, and the column address and auto precharge bit (A10) for READ/WRITEcommands, to select one location out of the memory array in there spective bank. A10 sampled (See Datasheet)", J7 BA1 (in) "Bank address inputs: BA0 and BA1 define to which bank an ACTIVE,READ, WRITE, or PRECHARGE command is being applied. BA0 and BA1also define which mode register (mode register or extended moderegister) is loaded during the (See Datasheet)", J8 BA0 (in) "Bank address inputs: BA0 and BA1 define to which bank an ACTIVE,READ, WRITE, or PRECHARGE command is being applied. BA0 and BA1also define which mode register (mode register or extended moderegister) is loaded during the (See Datasheet)", K2 A8 (in) "Address inputs: Provide the row address for ACTIVE commands, and the column address and auto precharge bit (A10) for READ/WRITEcommands, to select one location out of the memory array in theres pective bank. A10 sampled (See Datasheet)", K3 A7 (in) "Address inputs: Provide the row address for ACTIVE commands, and the column address and auto precharge bit (A10) for READ/WRITEcommands, to select one location out of the memory array in therespective bank. A10 sampled (See Datasheet)", K7 A0 (in) "Address inputs: Provide the row address for ACTIVE commands, and the column address and auto precharge bit (A10) for READ/WRITEcommands, to select one location out of the memory array in therespective bank. A10 sampled (See Datasheet)", K8 A10 (in) "Address inputs: Provide the row address for ACTIVE commands, and the column address and auto precharge bit (A10) for READ/WRITEcommands, to select one location out of the memory array in therespective bank. A10 sampled (See Datasheet)", L2 A6 (in) "Address inputs: Provide the row address for ACTIVE commands, and the column address and auto precharge bit (A10) for READ/WRITEcommands, to select one location out of the memory array in therespective bank. A10 sampled (See Datasheet)", L3 A5 (in) "Address inputs: Provide the row address for ACTIVE commands, and the column address and auto precharge bit (A10) for READ/WRITEcommands, to select one location out of the memory array in therespective bank. A10 sampled (See Datasheet)", L7 A2 (in) "Address inputs: Provide the row address for ACTIVE commands, and the column address and auto precharge bit (A10) for READ/WRITEcommands, to select one location out of the memory array in therespective bank. A10 sampled (See Datasheet)", L8 A1 (in) "Address inputs: Provide the row address for ACTIVE commands, and the column address and auto precharge bit (A10) for READ/WRITEcommands, to select one location out of the memory array in therespective bank. A10 sampled (See Datasheet)", M2 A4 (in) "Address inputs: Provide the row address for ACTIVE commands, and the column address and auto precharge bit (A10) for READ/WRITEcommands, to select one location out of the memory array in therespective bank. A10 sampled (See Datasheet)", M8 A3 (in) "Address inputs: Provide the row address for ACTIVE commands, and the column address and auto precharge bit (A10) for READ/WRITEcommands, to select one location out of the memory array in therespective bank. A10 sampled (See Datasheet)"
part B pins: A1 VSSQ (power) "DQ ground: Isolated on the die for improved noise immunity.", A3 VSS (power) "Ground.", A7 VDD (power) "Power supply: 2.5V +/-0.2V. (2.6V +/-0.1V for DDR400).", A9 VDDQ (power) "DQ power supply: 2.5V +/-0.2V (2.6V +/-0.1V for DDR400). Isolated on the die for improved noise immunity.", B2 VDDQ (power) "DQ power supply: 2.5V +/-0.2V (2.6V +/-0.1V for DDR400). Isolated on the die for improved noise immunity.", B8 VSSQ (power) "DQ ground: Isolated on the die for improved noise immunity.", C2 VSSQ (power) "DQ ground: Isolated on the die for improved noise immunity.", C8 VDDQ (power) "DQ power supply: 2.5V +/-0.2V (2.6V +/-0.1V for DDR400). Isolated on the die for improved noise immunity.", D2 VDDQ (power) "DQ power supply: 2.5V +/-0.2V (2.6V +/-0.1V for DDR400). Isolated on the die for improved noise immunity.", D8 VSSQ (power) "DQ ground: Isolated on the die for improved noise immunity.", E2 VSSQ (power) "DQ ground: Isolated on the die for improved noise immunity.", E8 VDDQ (power) "DQ power supply: 2.5V +/-0.2V (2.6V +/-0.1V for DDR400). Isolated on the die for improved noise immunity.", F1 VREF (in) "SSTL_2 reference voltage.", F2 VSS (power) "Ground.", F8 VDD (power) "Power supply: 2.5V +/-0.2V. (2.6V +/-0.1V for DDR400).", M3 VSS (power) "Ground.", M7 VDD (power) "Power supply: 2.5V +/-0.2V. (2.6V +/-0.1V for DDR400)."